# EAGLE library part STM8S003F3P6TR (library Microcontroller)
IC MCU 8BIT 8KB FLASH 20TSSOP Manufacturer's datasheet <https://www.st.com/content/ccc/resource/technical/document/datasheet/42/5a/27/87/ac/5a/44/88/DM00024550.pdf/files/DM00024550.pdf/jcr:content/translations/en.DM00024550.pdf>
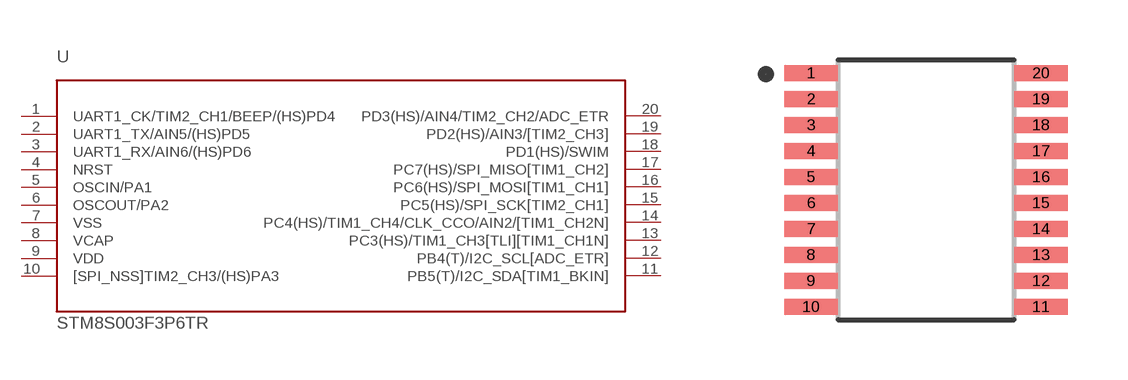
[diagram p38: symbol with the pads of 20-TSSOP; footprint 20-TSSOP]

Designator prefix U

## STM8S003F3P6TR (CREATED_BY: PCBLayout.com; DIGIKEY_PART_NUMBER: 497-18051-2-ND; MANUFACTURER: STMicroelectronics; MPN: STM8S003F3P6TR; PACKAGE: 20-TSSOP)  [20-TSSOP]
1  UART1_CK/TIM2_CH1/BEEP/(HS)PD4
2  UART1_TX/AIN5/(HS)PD5
3  UART1_RX/AIN6/(HS)PD6
4  NRST
5  OSCIN/PA1
6  OSCOUT/PA2
7  VSS  pwr
8  VCAP  pwr
9  VDD  pwr
10  [SPI_NSS]TIM2_CH3/(HS)PA3
11  PB5(T)/I2C_SDA[TIM1_BKIN]
12  PB4(T)/I2C_SCL[ADC_ETR]
13  PC3(HS)/TIM1_CH3[TLI][TIM1_CH1N]
14  PC4(HS)/TIM1_CH4/CLK_CCO/AIN2/[TIM1_CH2N]
15  PC5(HS)/SPI_SCK[TIM2_CH1]
16  PC6(HS)/SPI_MOSI[TIM1_CH1]
17  PC7(HS)/SPI_MISO[TIM1_CH2]
18  PD1(HS)/SWIM
19  PD2(HS)/AIN3/[TIM2_CH3]
20  PD3(HS)/AIN4/TIM2_CH2/ADC_ETR

## Footprint 20-TSSOP (pad centres in mm)
smd 1.35 x 0.4: 1 -2.875,2.925; 2 -2.875,2.275; 3 -2.875,1.625; 4 -2.875,0.975; 5 -2.875,0.325; 6 -2.875,-0.325; 7 -2.875,-0.975; 8 -2.875,-1.625; 9 -2.875,-2.275; 10 -2.875,-2.925; 11 2.875,-2.925; 12 2.875,-2.275; 13 2.875,-1.625; 14 2.875,-0.975; 15 2.875,-0.325; 16 2.875,0.325; 17 2.875,0.975; 18 2.875,1.625; 19 2.875,2.275; 20 2.875,2.925